# EAGLE library part 61302015721 (library Wuerth_Elektronik_eiCan_Pin_&_Socked_Headers_v1.3)
WR-PHD 2.54mm Socket Header Bottom Entry, 20 Pins
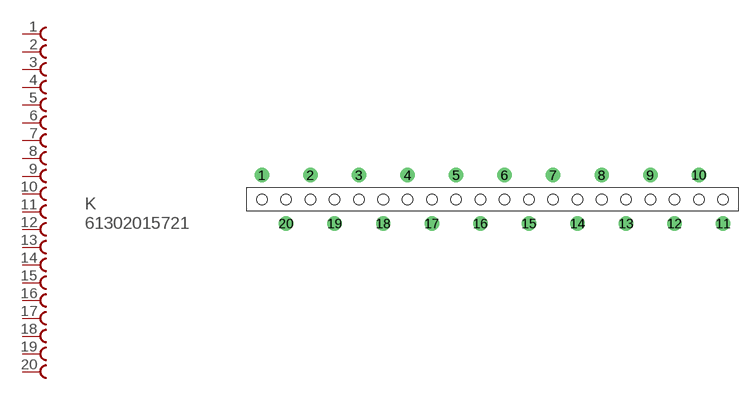
[diagram p190: symbol with the pads of 61302015721; footprint 61302015721]

Designator prefix K

## 61302015721  [61302015721]
1  1  pas
2  2  pas
3  3  pas
4  4  pas
5  5  pas
6  6  pas
7  7  pas
8  8  pas
9  9  pas
10  10  pas
11  11  pas
12  12  pas
13  13  pas
14  14  pas
15  15  pas
16  16  pas
17  17  pas
18  18  pas
19  19  pas
20  20  pas

## Footprint 61302015721 (pad centres in mm)
WR-PHD 2.54mm Socket Header Bottom Entry, 20 Pins
drill 1 round: 1 -24.13,2.54; 2 -19.05,2.54; 3 -13.97,2.54; 4 -8.89,2.54; 5 -3.81,2.54; 6 1.27,2.54; 7 6.35,2.54; 8 11.43,2.54; 9 16.51,2.54; 10 21.59,2.54; 11 24.13,-2.54; 12 19.05,-2.54; 13 13.97,-2.54; 14 8.89,-2.54; 15 3.81,-2.54; 16 -1.27,-2.54; 17 -6.35,-2.54; 18 -11.43,-2.54; 19 -16.51,-2.54; 20 -21.59,-2.54
hole 1.1 at -24.13,0
hole 1.1 at -21.59,0
hole 1.1 at -19.05,0
hole 1.1 at -16.51,0
hole 1.1 at -13.97,0
hole 1.1 at -11.43,0
hole 1.1 at -8.89,0
hole 1.1 at -6.35,0
hole 1.1 at -3.81,0
hole 1.1 at -1.27,0
hole 1.1 at 1.27,0
hole 1.1 at 3.81,0
hole 1.1 at 6.35,0
hole 1.1 at 8.89,0
hole 1.1 at 11.43,0
hole 1.1 at 13.97,0
hole 1.1 at 16.51,0
hole 1.1 at 19.05,0
hole 1.1 at 21.59,0
hole 1.1 at 24.13,0